# Altium footprint library Oscillators.PcbLib: 1 footprints
Each footprint in its own frame and in the unit in brackets; x right, y up, seen from the top. Pads: shape width x height; smd on the part's side, far side on the other; paste and mask are expansions set on the pad; w line width, h text height; cw(c..) or ccw(c..) is an arc to the next point about the centre after c.
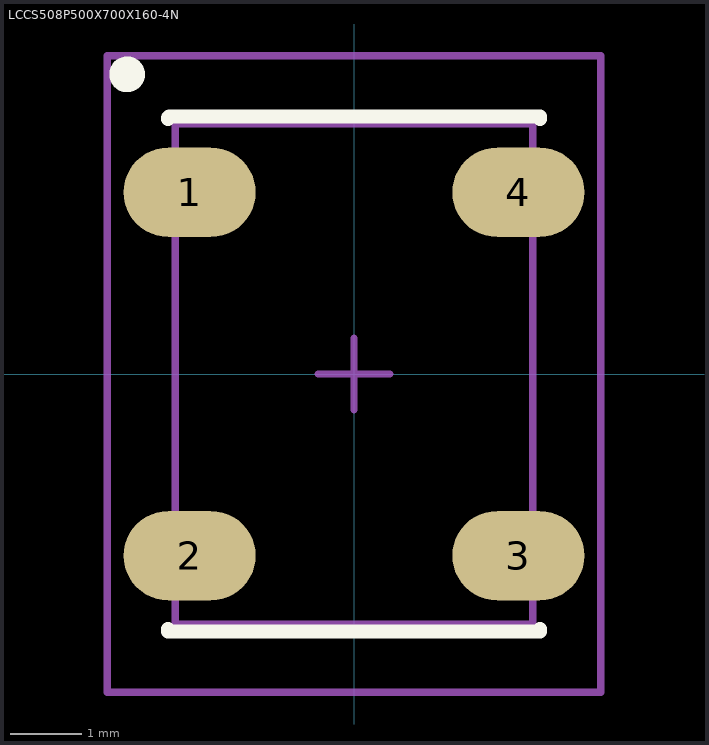
[diagram p0: the footprint, top view; thin cyan lines are the x and y axes]

## LCCS508P500X700X160-4N [mm] "LCC, 4-Pins, Body 5.2x7.2mm (max), Pitch 5.08mm, IPC Medium Density"
height 1.6
pads (4):
  oval 1.85x1.25 smd: 1(-2.3,2.54) 2(-2.3,-2.54) 3(2.3,-2.54) 4(2.3,2.54)
Top Overlay:
  circle w0.25: c-3.173,4.191 r0.125
  lines w0.2: -2.6,-3.565 -2.6,-3.6 1.515,-3.6 ; -2.6,3.565 -2.6,3.582 -2.582,3.6 1.515,3.6 ; -1.515,-3.6 2.6,-3.6 2.6,-3.565 ; -1.515,3.6 2.6,3.6 2.6,3.565
Mechanical 13:
  lines w0.1: -2.5,-3.5 2.5,-3.5 2.5,3.5 -2.482,3.5 -2.5,3.483 -2.5,-3.5
Mechanical 15:
  lines w0.1: -0.5,0 0.5,0 ; 0,-0.5 0,0.5 ; -3.45,-4.45 3.45,-4.45 3.45,4.45 -3.45,4.45 -3.45,-4.45
3D body: height 1, standoff -0.01, extent -2.4,-3.65 2.4,3.65